# Altium footprint library 874270602.PcbLib: 2 footprints
Each footprint in its own frame and in the unit in brackets; x right, y up, seen from the top. Pads: shape width x height; smd on the part's side, far side on the other; paste and mask are expansions set on the pad; w line width, h text height; cw(c..) or ccw(c..) is an arc to the next point about the centre after c.
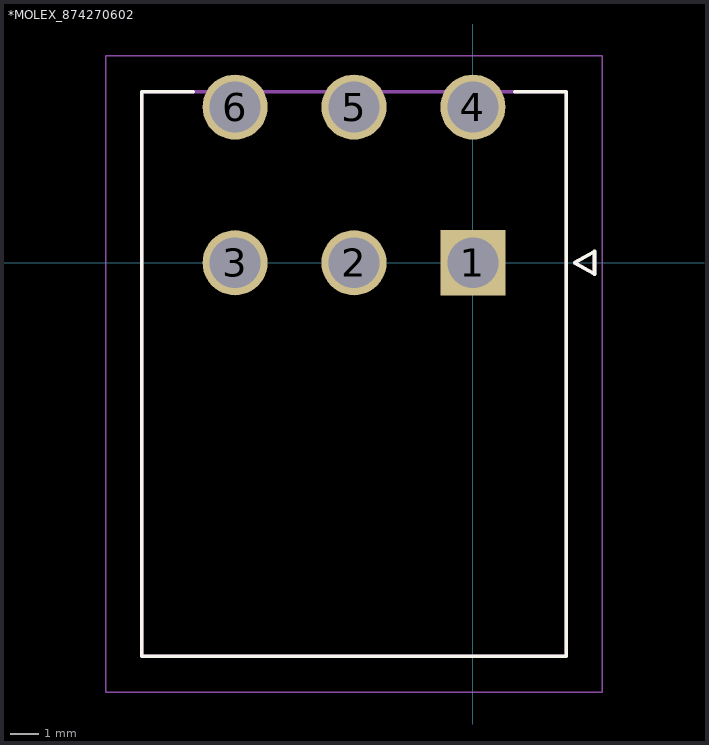
[diagram p0: the footprints below, top view; thin cyan lines are the x and y axes]

## *MOLEX_874270602 [mm]
pads (6):
  rect 2.3x2.3 hole 1.8: 1(0,0)
  round 2.3 hole 1.8: 2(-4.2,0) 3(-8.4,0) 4(0,5.5) 5(-4.2,5.5) 6(-8.4,5.5)
Top Overlay:
  lines w0.127: -9.876,6.04 -11.7,6.04 -11.7,-13.9 3.3,-13.9 3.3,6.04 1.476,6.04 ; 3.597,0 4.297,0.4 4.297,-0.4 3.597,0
Top Solder:
  circle w1.226: c-4.2,0 r0.613
  circle w1.226: c-8.4,0 r0.613
  circle w1.226: c0,5.5 r0.613
  circle w1.226: c-4.2,5.5 r0.613
  circle w1.226: c-8.4,5.5 r0.613
  region: -1.226,1.226 1.226,1.226 1.226,-1.226 -1.226,-1.226
Bottom Solder:
  circle w1.226: c-4.2,0 r0.613
  circle w1.226: c-8.4,0 r0.613
  circle w1.226: c0,5.5 r0.613
  circle w1.226: c-4.2,5.5 r0.613
  circle w1.226: c-8.4,5.5 r0.613
  region: -1.226,1.226 1.226,1.226 1.226,-1.226 -1.226,-1.226
Mechanical 4:
  lines w0.127: -11.7,-13.9 -11.7,6.04 ; -11.7,-13.9 3.3,-13.9 ; -11.7,-13.9 -11.7,6.04 ; -11.7,-13.9 3.3,-13.9 ; -11.7,6.04 3.3,6.04 ; -11.7,6.04 3.3,6.04 ; 3.3,-13.9 3.3,6.04 ; 3.3,-13.9 3.3,6.04 ; 3.597,0 4.297,0.4 ; 3.597,0 4.297,-0.4 ; 3.597,0 4.297,0.4 ; 3.597,0 4.297,-0.4 ; 4.297,-0.4 4.297,0.4 ; 4.297,-0.4 4.297,0.4
  text "PTH D1.80 +/- 0.05" at -12.081,7.93 h1.88
  text "PTH D1.80 +/- 0.05" at -12.081,7.93 h1.88
Mechanical 16:
  lines w0.05: -12.97,-15.17 -12.97,7.31 4.57,7.31 4.57,-15.17 -12.97,-15.17
3D body "874270602--3DModel-STEP-390490.STEP": height 11.4, standoff -3.3, extent -11.684,-13.905 3.316,6.031

## PCBComponent_1 [mm]